# Altium schematic symbol library SchLib_ADH.SchLib: 241 symbols (part 2 of 9)
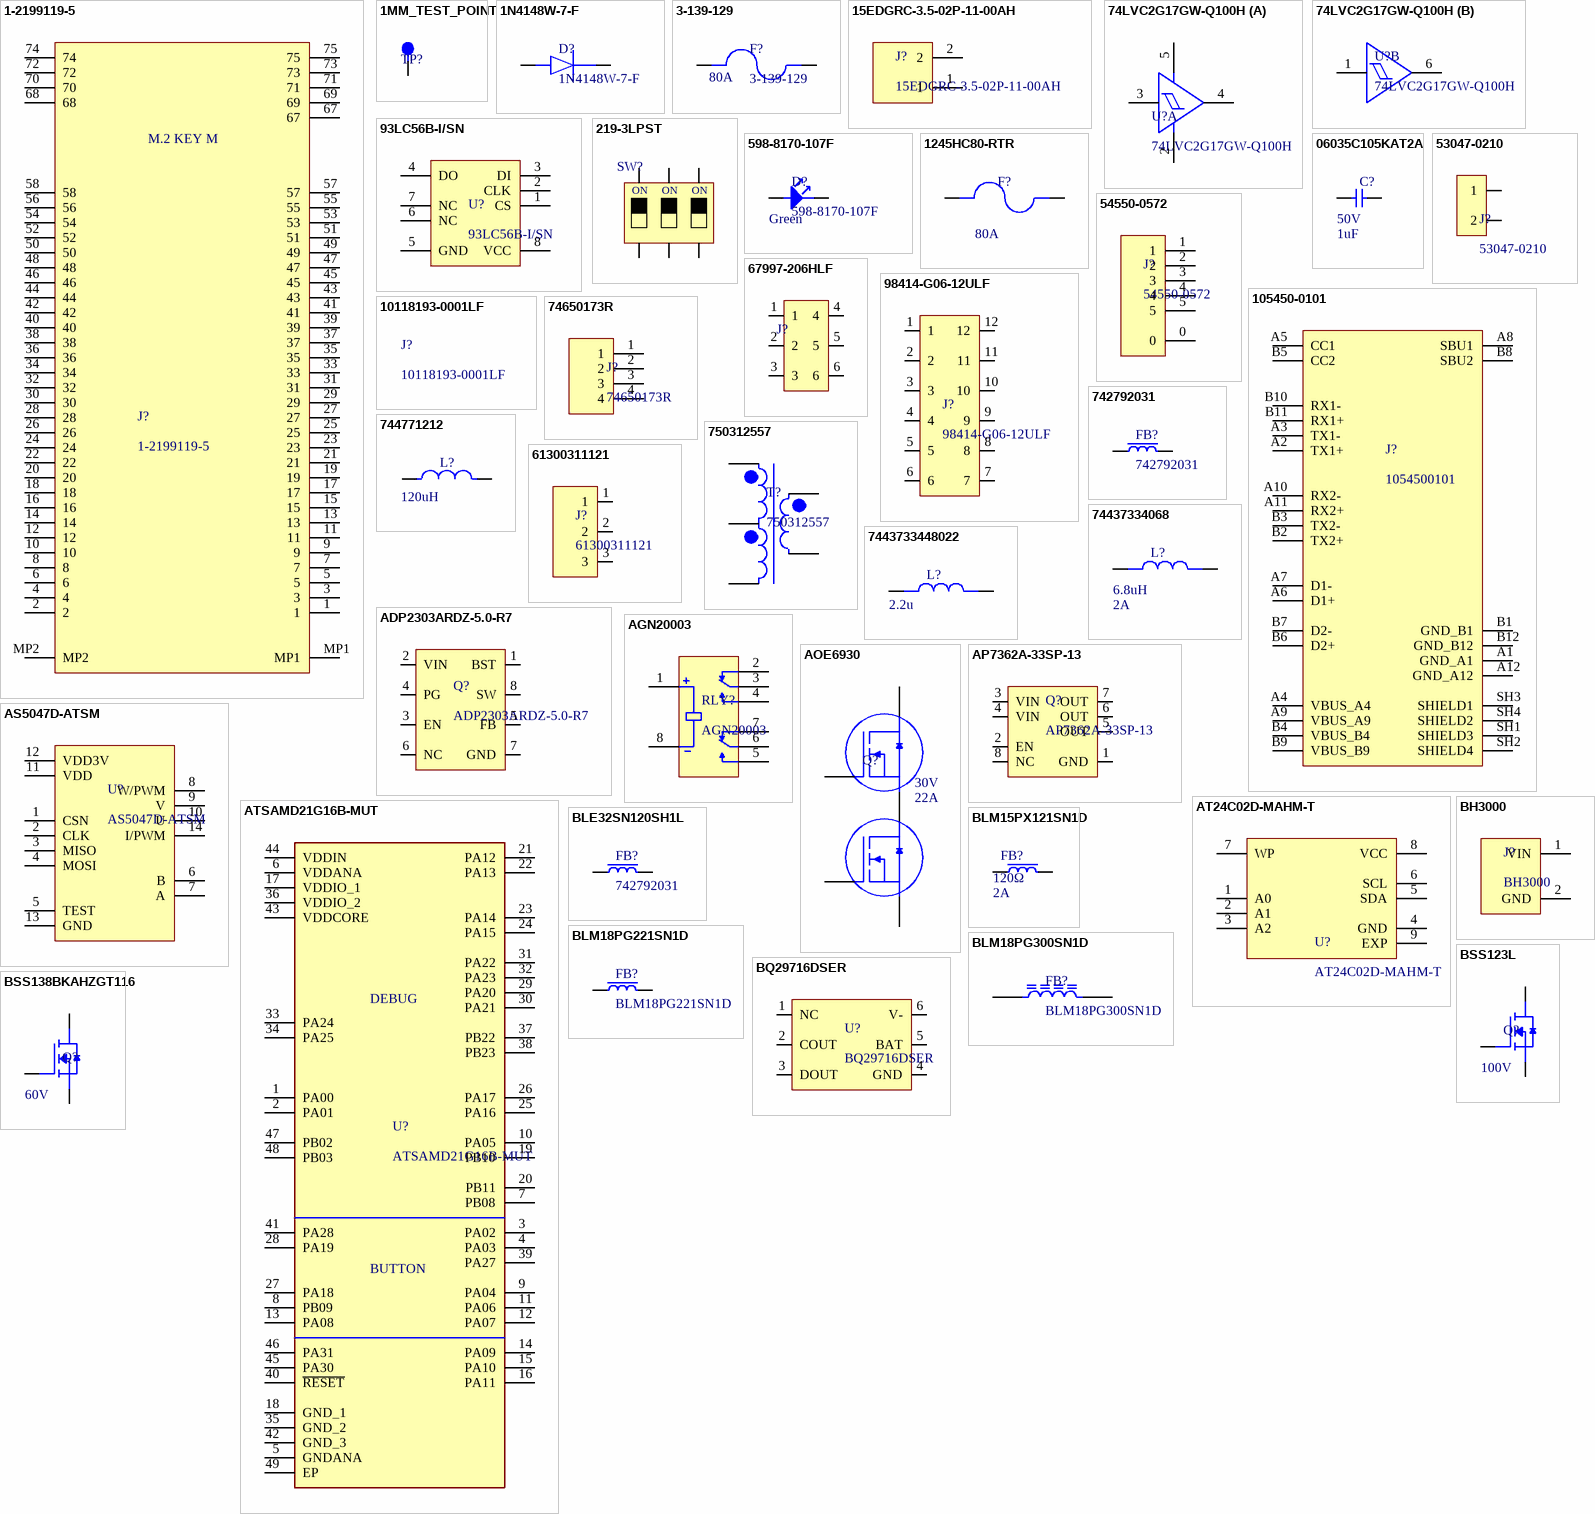
[diagram p8: symbols 1-2199119-5 to BSS138BKAHZGT116]

## AOE6930
designator Q?  Voltage Rating: 30V  Current Rating: 22A  (hidden comment: AOE6930)
AOE6932 improves gate driving performance | MOSFET 2 N-CH 30V 22A/85A 8DFN; Manufacturer: Alpha & Omega Semiconductor; Supplier: Digikey; Supplier Part Number: 785-AOE6930CT-ND; Manufacturer Part Number: AOE6930; RoHS: Yes; Category: Transistors; Stock: 2557; Pricing: 1=2,15, 10=1,782, 100=1,418, 500=1,19988, 1000=1,01808 (USD); ComponentLink1URL: http://aosmd.com/res/data_sheets/AOE6930.pdf?src-supplier=Digikey; ComponentLink1Description: http://aosmd.com/res/data_sheets/AOE6930.pdf?src-supplier=Digikey; ComponentLink2URL: https://datasheet.octopart.com/AOE6930-Alpha-%26-Omega-Semiconductor-datasheet-136498249.pdf?src-supplier=LKR; ComponentLink2Description: https://datasheet.octopart.com/AOE6930-Alpha-%26-Omega-Semiconductor-datasheet-136498249.pdf?src-supplier=LKR
footprint 8-VDFN
pins: 1 G1, 2 S1/D2, 3 D1, 4 D1, 5 S1/D2, 6 S1/D2, 7 S1/D2, 8 G2, 9 S2, 10 D1

## AP7362A-33SP-13
designator Q?
LDO Regulator Pos 3.3V 1.5A 8-Pin SOP EP T/R; Manufacturer: Diodes; Supplier: Digi-Key; Supplier Part Number: AP7362A-33SP-13DICT-ND; Manufacturer Part Number: AP7362A-33SP-13; RoHS: Yes; Category: Voltage Regulators - Linear; Stock: 13829; Pricing: 1=0,63, 10=0,537, 25=0,5012, 100=0,401, 250=0,37236, 500=0,31508, 1000=0,24347 (USD); ComponentLink1URL: http://www.mouser.com/ds/2/115/AP7362-476331.pdf?src-supplier=Mouser; ComponentLink1Description: http://www.mouser.com/ds/2/115/AP7362-476331.pdf?src-supplier=Mouser; ComponentLink2URL: https://www.diodes.com/assets/Datasheets/AP7362.pdf?src-supplier=Digi-Key; ComponentLink2Description: https://www.diodes.com/assets/Datasheets/AP7362.pdf?src-supplier=Digi-Key; ComponentLink3URL: https://datasheet.octopart.com/AP7362A-33SP-13-Diodes-Inc.-datasheet-141402624.pdf?src-supplier=Element14; ComponentLink3Description: https://datasheet.octopart.com/AP7362A-33SP-13-Diodes-Inc.-datasheet-141402624.pdf?src-supplier=Element14; ComponentLink4URL: http://diodes.com/datasheets/AP7362.pdf?src-supplier=Avnet; ComponentLink4Description: http://diodes.com/datasheets/AP7362.pdf?src-supplier=Avnet
footprint SOIC127P600X175_HS-9N (SOIC, 8-Leads, Body 4,90x3,90mm, Pitch 1,27mm, Thermal Pad 2,29x2,29mm, IPC Medium Density)
pins: 1 GND, 2 EN, 3 VIN, 4 VIN, 5 OUT, 6 OUT, 7 OUT, 8 NC

## AS5047D-ATSM
designator U?
AS5047 Series 5.5 V 14-Bit On-Axis Magnetic Rotary Position Sensor - TSSOP-14; Manufacturer: Osram; Supplier: Digi-Key; Supplier Part Number: AS5047D-ATSMCT-ND; Manufacturer Part Number: AS5047D-ATSM; RoHS: No; Stock: 17926; Pricing: 1=7,58, 10=6,066, 25=5,6112, 100=4,8528 (USD); ComponentLink1URL: https://datasheet.octopart.com/AS5047D-ATSM-Osram-datasheet-101745473.pdf?src-supplier=Future+Electronics; ComponentLink1Description: https://datasheet.octopart.com/AS5047D-ATSM-Osram-datasheet-101745473.pdf?src-supplier=Future+Electronics
footprint SOP65P640X120-14N
pins: 1 CSN, 2 CLK, 3 MISO, 4 MOSI, 5 TEST, 6 B, 7 A, 8 W/PWM, 9 V, 10 U, 11 VDD, 12 VDD3V, 13 GND, 14 I/PWM

## AT24C02D-MAHM-T
designator U?
EEPROM, 256X8, Serial, CMOS, PDSO8; Manufacturer: Microchip; Package Body Material: Plastic; Clock Frequency: 400kHz; Data Retention Time-Min: 100; Endurance: 1000000Cycles; I2C Control Byte: 1010DDDR; Density: 2048b; Memory Width: 8; Channels: 1; Memory Size: 256; Operating Mode: SYNCHRONOUS; Package Equivalence Code: SOLCC8,.11,20; Power Supplies: 1.8/3.3V; Serial Bus Type: I2C; Standby Current-Max: 400nA; Max Supply Current: 1uA; Max Supply Voltage: 3.6V; Min Supply Voltage: 1.7V; Nominal Supply Voltage: 1.8V; Write Cycle Time-Max (tWC): 5ms; Write Protection: HARDWARE; Qualification Status: Not Qualified; Supplier 1: Digikey; Manufacturer Part Number: AT24C02D-MAHM-T; RoHS: Yes; Stock 1: 31907; Pricing 1: 1=0.25, 100=0.2369 (USD); Case/Package: HVSON; Pins: 8; Package Shape: Rectangular; Min Operating Temperature: -40°C; Max Operating Temperature: 85°C; Memory Format: EEPROM; JESD-30 Code: R-PDSO-N8; Organization: 256X8; Package Style: SMALL OUTLINE, HEAT SINK/SLUG, VERY THIN PROFILEMeter; Parallel/Serial: SERIAL; Surface Mount: Yes; Technology: CMOS; Terminal Form: No Lead; Terminal Position: DUAL; Length: 3mm; Width: 2mm; Height - Seated (Max): 0.6mm; Terminal Pitch: 0.5mm; Temperature Grade: INDUSTRIAL; Reach SVHC Compliant: Yes; RoHS Compliant: Yes; ComponentLink1URL: https://datasheet.ciiva.com:443/pdfs/VipMasterIC/IC/ATML/ATML-S-A0001226715/ATML-S-A0001226715-1.pdf?src-supplier=IHS+Markit; ComponentLink1Description: https://datasheet.ciiva.com:443/pdfs/VipMasterIC/IC/ATML/ATML-S-A0001226715/ATML-S-A0001226715-1.pdf?src-supplier=IHS+Markit; ComponentLink2URL: https://datasheet.ciiva.com/48496/atmel-8871-seeprom-at24c01d-02d-datasheet-48496454.pdf?src-supplier=Avnet; ComponentLink2Description: https://datasheet.ciiva.com/48496/atmel-8871-seeprom-at24c01d-02d-datasheet-48496454.pdf?src-supplier=Avnet; Supplier Part Number 1: AT24C02D-MAHM-TCT-ND
footprint SON50P200X300X60-9N
pins: 1 A0, 2 A1, 3 A2, 4 GND, 5 SDA, 6 SCL, 7 WP, 8 VCC, 9 EXP

## ATSAMD21G16B-MUT
designator U?
MCU 32-Bit SAM D21G ARM Cortex M0+ RISC 64KB Flash 3.3V 48-Pin QFN EP T/R; Manufacturer: Microchip; Interface: I2C,SPI,USB,UART,USART; Number of I/Os: 38; Oscillator Type: Internal; Peripherals: Brown-out Detect/Reset,POR,PWM,WDT,DMA; Supplier: Digikey; Supplier Part Number: ATSAMD21G16B-MUTCT-ND; Manufacturer Part Number: ATSAMD21G16B-MUT; RoHS: No; Category: Uncategorized; Stock: 32000; Pricing: 1=2,79, 25=2,54, 100=2,31 (USD); Mounting Technology: Surface Mount; Case/Package: QFN; Pins: 48; Min Operating Temperature: -40°C; Max Operating Temperature: 85°C; Packaging: Cut Tape; Memory Format: FLASH; Memory Size: 64KB; Core Architecture: ARM; Series: SAM D21G; RoHS Compliant: No; ComponentLink1URL: http://www.atmel.com/images/atmel-42181-sam-d21_datasheet.pdf?src-supplier=Avnet; ComponentLink1Description: http://www.atmel.com/images/atmel-42181-sam-d21_datasheet.pdf?src-supplier=Avnet; ComponentLink2URL: http://www.microchip.com/mymicrochip/filehandler.aspx?ddocname=en605782&src-supplier=Digikey; ComponentLink2Description: http://www.microchip.com/mymicrochip/filehandler.aspx?ddocname=en605782&src-supplier=Digikey
footprint QFN50P700X700X60-49N-D
pins: 1 PA00, 2 PA01, 3 PA02, 4 PA03, 5 GNDANA, 6 VDDANA, 7 PB08, 8 PB09, 9 PA04, 10 PA05, 11 PA06, 12 PA07, 13 PA08, 14 PA09, 15 PA10, 16 PA11, 17 VDDIO_1, 18 GND_1, 19 PB10, 20 PB11, 21 PA12, 22 PA13, 23 PA14, 24 PA15, 25 PA16, 26 PA17, 27 PA18, 28 PA19, 29 PA20, 30 PA21, 31 PA22, 32 PA23, 33 PA24, 34 PA25, 35 GND_2, 36 VDDIO_2, 37 PB22, 38 PB23, 39 PA27, 40 ~{RESET}, 41 PA28, 42 GND_3, 43 VDDCORE, 44 VDDIN, 45 PA30, 46 PA31, 47 PB02, 48 PB03, 49 EP
text: DEBUG; BUTTON

## BH3000
designator J?
Battery Holder Coin 30MM Pc Pin; Manufacturer: Memory Protection Devices; Supplier: Digi-Key; Supplier Part Number: BH3000-ND; Manufacturer Part Number: BH3000; RoHS: No; Category: Batteries and Accessories; Stock: 1816; Pricing: 1=1,97, 10=1,655, 50=1,4544, 100=1,3704, 250=1,26048, 500=1,18292, 1000=1,10534, 2500=1,00192, 5000=0,91789 (USD); ComponentLink1URL: https://datasheet.ciiva.com/4/bh3000-datasheet-4407.pdf?src-supplier=Digi-Key; ComponentLink1Description: https://datasheet.ciiva.com/4/bh3000-datasheet-4407.pdf?src-supplier=Digi-Key
footprint BAT_BH3000
pins: 1 VIN, 2 GND

## BLE32SN120SH1L
designator FB?, comment 742792031
12 Ohms @ 100 MHz 1 Power Line Ferrite Bead 1210 (3225 Metric) 20A 0.6mOhm; Manufacturer Part Number: 742792031
footprint BLE32SN120SH1L
pins: 1, 2

## BLM15PX121SN1D
designator FB?  Impedance: 120Ω  Max Current Rating: 2A  (hidden comment: BLM15PX121SN1D)
Ferrite Beads Multi-Layer 120Ohm 25% 100MHz 2A 0.055Ohm DCR 0402 T/R; Manufacturer: Murata; Current Rating: 1.1A; DC Resistance (DCR): 55mΩ; Material: Steel; Number of Circuits: 1; Supplier: Arrow Electronics; Supplier Part Number: BLM15PX121SN1D; Manufacturer Part Number: BLM15PX121SN1D; RoHS: Compliant; Category: Ferrite Beads and Chips; Stock: 81241; Pricing: 4237=0,0236, 6000=0,023, 15000=0,023, 30000=0,022, 75000=0,022 (USD); Case/Package: 0402; Case Code (Imperial): 0402; Case Code (Metric): 1005; Contact Plating: Tin; Core Material: Ferrite; Height: 500µm; Lead Free: Lead Free; Length: 1mm; Lifecycle Status: Production; Max DC Current: 2A; Max Operating Temperature: 125°C; Min Operating Temperature: -55°C; Number of Lines: 1; Pins: 2; Number of Terminals: 2; Packaging: Tape and Reel; REACH SVHC: Yes; RMS Current (Irms): 2A; Schedule B: 8504500000, 8504500000|8504500000, 8504500000|8504500000|8504500000, 8504500000|8504500000|8504500000|8504500000; ESR: 55mΩ; Termination: SMD/SMT; Test Frequency: 100MHz; Tolerance: 25%; Weight: 652.039032µg; Width: 500µm; ComponentLink1URL: https://datasheet.octopart.com:443/BLM15PX121SN1D-Murata-datasheet-180806543.pdf?src-supplier=IHS; ComponentLink1Description: https://datasheet.octopart.com:443/BLM15PX121SN1D-Murata-datasheet-180806543.pdf?src-supplier=IHS; ComponentLink2URL: https://datasheet.octopart.com:443/BLM15PX121SN1D-Murata-datasheet-12522583.pdf?src-supplier=Upverter; ComponentLink2Description: https://datasheet.octopart.com:443/BLM15PX121SN1D-Murata-datasheet-12522583.pdf?src-supplier=Upverter; ComponentLink3URL: https://datasheet.octopart.com:443/BLM15PX121SN1D-Murata-datasheet-10083551.pdf?src-supplier=Upverter; ComponentLink3Description: https://datasheet.octopart.com:443/BLM15PX121SN1D-Murata-datasheet-10083551.pdf?src-supplier=Upverter; ComponentLink4URL: https://datasheet.octopart.com:443/BLM15PX121SN1D-Murata-datasheet-8508678.pdf?src-supplier=Upverter; ComponentLink4Description: https://datasheet.octopart.com:443/BLM15PX121SN1D-Murata-datasheet-8508678.pdf?src-supplier=Upverter; ComponentLink5URL: https://datasheet.octopart.com:443/BLM15PX121SN1D-Murata-datasheet-39128427.pdf?src-supplier=Newark; ComponentLink5Description: https://datasheet.octopart.com:443/BLM15PX121SN1D-Murata-datasheet-39128427.pdf?src-supplier=Newark; ComponentLink6URL: https://datasheet.octopart.com:443/BLM15PX121SN1D-Murata-datasheet-166171473.pdf?src-supplier=TME; ComponentLink6Description: https://datasheet.octopart.com:443/BLM15PX121SN1D-Murata-datasheet-166171473.pdf?src-supplier=TME; ComponentLink7URL: https://datasheet.octopart.com:443/BLM15PX121SN1D-Murata-datasheet-141257890.pdf?src-supplier=Ciiva; ComponentLink7Description: https://datasheet.octopart.com:443/BLM15PX121SN1D-Murata-datasheet-141257890.pdf?src-supplier=Ciiva; ComponentLink8URL: https://datasheet.octopart.com:443/BLM15PX121SN1D-Murata-datasheet-138706708.pdf?src-supplier=Ciiva; ComponentLink8Description: https://datasheet.octopart.com:443/BLM15PX121SN1D-Murata-datasheet-138706708.pdf?src-supplier=Ciiva; ComponentLink9URL: https://datasheet.octopart.com:443/BLM15PX121SN1D-Murata-datasheet-78375072.pdf?src-supplier=Future+Electronics; ComponentLink9Description: https://datasheet.octopart.com:443/BLM15PX121SN1D-Murata-datasheet-78375072.pdf?src-supplier=Future+Electronics; ComponentLink10URL: https://datasheet.octopart.com:443/BLM15PX121SN1D-Murata-datasheet-13563506.pdf?src-supplier=Future+Electronics; ComponentLink10Description: https://datasheet.octopart.com:443/BLM15PX121SN1D-Murata-datasheet-13563506.pdf?src-supplier=Future+Electronics; ComponentLink11URL: https://datasheet.octopart.com:443/BLM15PX121SN1D-Murata-datasheet-12545319.pdf?src-supplier=Future+Electronics; ComponentLink11Description: https://datasheet.octopart.com:443/BLM15PX121SN1D-Murata-datasheet-12545319.pdf?src-supplier=Future+Electronics; ComponentLink12URL: https://datasheet.octopart.com/BLM15PX121SN1D-Murata-datasheet-37129980.pdf; ComponentLink12Description: https://datasheet.octopart.com/BLM15PX121SN1D-Murata-datasheet-37129980.pdf; ComponentLink13URL: http://sigma.octopart.com:80/reach_statement/Murata-company-16.pdf?src-supplier=Compliance+Statements; ComponentLink13Description: http://sigma.octopart.com:80/reach_statement/Murata-company-16.pdf?src-supplier=Compliance+Statements
footprint FERRITE_0402
pins: 1, 2

## BLM18PG221SN1D
designator FB?
Ferrite Beads Multi-Layer 220Ohm 25% 100MHz 1.4A 100mOhm DCR 0603 Paper T/R; Manufacturer: Murata; Manufacturer Series: BLM18P; Material: Steel,Ferrite; Value: 100mR; Impedance: 220R; Number of Lines: 1; Shielding: Unshielded; Supplier: Digikey; Supplier Part Number: 490-5221-1-ND; Manufacturer Part Number: BLM18PG221SN1D; RoHS: Yes; Category: Ferrite Beads and Chips; Stock: 127157; Pricing: 1=0,1, 10=0,061, 25=0,0528, 50=0,0472, 100=0,0423, 250=0,03644, 500=0,03244, 1000=0,02878 (USD); Case/Package: 0603; Pins: 2; Core Material: Ferrite; Case Code (Metric): 1608; Case Code (Imperial): 0603; Weight: 7.1E-05oz; Min Operating Temperature: -55°C; Max Operating Temperature: 125°C; Package Quantity: 1; Tolerance: 25%; Packaging: Tape and Reel; Current Rating: 1.4A; ESR (Equivalent Series Resistance): 220R; Max Current Rating: 1.4A; DC Resistance (DCR): 100mR; Termination: SMD/SMT; Max DC Current: 1.4A; Test Frequency: 100MHz; DC Current: 1.4A; Number of Circuits: 1; Series: BLM18P; Channels: 1; DC Resistance-Max: 100mR; RMS Current (Irms): 1.4A; ESR: 100mR; Length: 1.6mm; Width: 0.8mm; Height: 0.8mm; Depth: 0.8mm; Radiation Hardening: No; Reach SVHC Compliant: No; Lead Free: Lead Free; RoHS Compliant: Yes; ComponentLink1URL: https://datasheet.ciiva.com/19458/1845030-19458417.pdf?src-supplier=Jameco; ComponentLink1Description: https://datasheet.ciiva.com/19458/1845030-19458417.pdf?src-supplier=Jameco; ComponentLink2URL: https://datasheet.ciiva.com/11800/0900766b81275ca5-11800851.pdf?src-supplier=Rs; ComponentLink2Description: https://datasheet.ciiva.com/11800/0900766b81275ca5-11800851.pdf?src-supplier=Rs; ComponentLink3URL: https://datasheet.ciiva.com/29347/442391-da-01-en-chip-drossel-0603-220r-1400ma-1-6x0-8mm-29347986.pdf?src-supplier=Conrad; ComponentLink3Description: https://datasheet.ciiva.com/29347/442391-da-01-en-chip-drossel-0603-220r-1400ma-1-6x0-8mm-29347986.pdf?src-supplier=Conrad; ComponentLink4URL: https://datasheet.ciiva.com/8021/5148-8021482.pdf?src-supplier=Element14; ComponentLink4Description: https://datasheet.ciiva.com/8021/5148-8021482.pdf?src-supplier=Element14; ComponentLink5URL: https://datasheet.ciiva.com/8021/5148-8021479.pdf?src-supplier=Element14; ComponentLink5Description: https://datasheet.ciiva.com/8021/5148-8021479.pdf?src-supplier=Element14; ComponentLink6URL: https://datasheet.ciiva.com/14122/blm-series-eng-tds-14122909.pdf?src-supplier=Distrelec; ComponentLink6Description: https://datasheet.ciiva.com/14122/blm-series-eng-tds-14122909.pdf?src-supplier=Distrelec; ComponentLink7URL: https://datasheet.ciiva.com/1012/l0110s0100blm18p-1012162.pdf?src-supplier=Digikey; ComponentLink7Description: https://datasheet.ciiva.com/1012/l0110s0100blm18p-1012162.pdf?src-supplier=Digikey; ComponentLink8URL: https://datasheet.ciiva.com/1012/l0110s0100blm18p-1012161.pdf?src-supplier=Digikey; ComponentLink8Description: https://datasheet.ciiva.com/1012/l0110s0100blm18p-1012161.pdf?src-supplier=Digikey; ComponentLink9URL: https://datasheet.ciiva.com/1012/l0110s0100blm18p-1012163.pdf?src-supplier=Digikey; ComponentLink9Description: https://datasheet.ciiva.com/1012/l0110s0100blm18p-1012163.pdf?src-supplier=Digikey; ComponentLink10URL: https://datasheet.ciiva.com/3081/l0110s0100blm18p-3081633.pdf?src-supplier=Avnet; ComponentLink10Description: https://datasheet.ciiva.com/3081/l0110s0100blm18p-3081633.pdf?src-supplier=Avnet; ComponentLink11URL: https://datasheet.ciiva.com/16205/l0110s0100blm18p-16205422.pdf?src-supplier=Future+Electronics; ComponentLink11Description: https://datasheet.ciiva.com/16205/l0110s0100blm18p-16205422.pdf?src-supplier=Future+Electronics
footprint FERRITE_0603
pins: 1, 2

## BLM18PG300SN1D
designator FB?
FERRITE BEAD 30 OHM 0603 1LN / Ferrite Beads Multi-Layer 30Ohm 100MHz 1A 0.05Ohm DCR 0603 T/R; Manufacturer: Murata; ESR: 50mR; Supplier: Digi-Key; Supplier Part Number: 490-1035-1-ND; Manufacturer Part Number: BLM18PG300SN1D; RoHS: Yes; Category: Ferrite Beads and Chips; Stock: 378641; Pricing: 1=0,1, 10=0,078, 25=0,0712, 50=0,064, 100=0,0469, 250=0,03412, 500=0,03128, 1000=0,02701 (USD); RMS Current (Irms): 1A; ComponentLink1URL: https://datasheet.ciiva.com/11800/0900766b81275ca5-11800868.pdf?src-supplier=Rs; ComponentLink1Description: https://datasheet.ciiva.com/11800/0900766b81275ca5-11800868.pdf?src-supplier=Rs; ComponentLink2URL: https://datasheet.ciiva.com/3081/l0110s0100blm18p-3081635.pdf?src-supplier=Avnet; ComponentLink2Description: https://datasheet.ciiva.com/3081/l0110s0100blm18p-3081635.pdf?src-supplier=Avnet; ComponentLink3URL: https://datasheet.ciiva.com/3081/l0110s0100blm18p-3081636.pdf?src-supplier=Avnet; ComponentLink3Description: https://datasheet.ciiva.com/3081/l0110s0100blm18p-3081636.pdf?src-supplier=Avnet; ComponentLink4URL: https://datasheet.ciiva.com/1012/l0110s0100blm18p-1012119.pdf?src-supplier=Digi-Key; ComponentLink4Description: https://datasheet.ciiva.com/1012/l0110s0100blm18p-1012119.pdf?src-supplier=Digi-Key; ComponentLink5URL: https://datasheet.ciiva.com/1012/l0110s0100blm18p-1012120.pdf?src-supplier=Digi-Key; ComponentLink5Description: https://datasheet.ciiva.com/1012/l0110s0100blm18p-1012120.pdf?src-supplier=Digi-Key; ComponentLink6URL: https://datasheet.ciiva.com/1012/l0110s0100blm18p-1012121.pdf?src-supplier=Digi-Key; ComponentLink6Description: https://datasheet.ciiva.com/1012/l0110s0100blm18p-1012121.pdf?src-supplier=Digi-Key; ComponentLink7URL: https://datasheet.ciiva.com/8021/5148-8021484.pdf?src-supplier=Element14; ComponentLink7Description: https://datasheet.ciiva.com/8021/5148-8021484.pdf?src-supplier=Element14; ComponentLink8URL: https://datasheet.ciiva.com/8021/5148-8021486.pdf?src-supplier=Element14; ComponentLink8Description: https://datasheet.ciiva.com/8021/5148-8021486.pdf?src-supplier=Element14
footprint FERRITE_0603
pins: 1, 2

## BQ29716DSER
designator U?
Li-Ion/Li Polymer Advanced Single-Cell Battery Protector IC Family 6-WSON -40 to 85; Manufacturer: Texas Instruments; Supplier: Digi-Key; Supplier Part Number: 296-50977-1-ND; Manufacturer Part Number: BQ29716DSER; RoHS: Yes; Category: Battery Management; Stock: 5990; Pricing: 1=0,6, 10=0,515, 25=0,4808, 100=0,3846, 250=0,35712, 500=0,3022, 1000=0,23351 (USD); ComponentLink1URL: http://www.ti.com/lit/gpn/bq2971?src-supplier=Mouser; ComponentLink1Description: http://www.ti.com/lit/gpn/bq2971?src-supplier=Mouser; ComponentLink2URL: http://www.ti.com/general/docs/suppproductinfo.tsp?distId=10&amp;gotoUrl=http%3A%2F%2Fwww.ti.com%2Flit%2Fgpn%2Fbq2971&src-supplier=Digi-Key; ComponentLink2Description: http://www.ti.com/general/docs/suppproductinfo.tsp?distId=10&amp;gotoUrl=http%3A%2F%2Fwww.ti.com%2Flit%2Fgpn%2Fbq2971&src-supplier=Digi-Key; ComponentLink3URL: http://www.ti.com/lit/ds/symlink/bq2971.pdf?src-supplier=Digi-Key; ComponentLink3Description: http://www.ti.com/lit/ds/symlink/bq2971.pdf?src-supplier=Digi-Key
footprint SON50P150X150X80-6N
pins: 1 NC, 2 COUT, 3 DOUT, 4 GND, 5 BAT, 6 V-

## BSS123L
designator Q?  Drain to Source Breakdown Voltage: 100V  (hidden comment: BSS123L)
Power MOSFET 170 mA, 100 V, N-Channel SOT-23; Manufacturer: ON Semiconductor / Fairchild; Supplier: Digikey; Supplier Part Number: BSS123LCT-ND; Manufacturer Part Number: BSS123L; RoHS: Yes; Category: MOSFETs; Stock: 133490; Pricing: 1=0,3, 10=0,209, 100=0,1018, 500=0,08488, 1000=0,05898 (USD); Height: 1.11mm; ComponentLink1URL: http://www.mouser.com/ds/2/149/BSS123L-469259.pdf?src-supplier=Mouser; ComponentLink1Description: http://www.mouser.com/ds/2/149/BSS123L-469259.pdf?src-supplier=Mouser; ComponentLink2URL: http://components.arrow.com/part/dataview/74324801S1101125N9186?src-supplier=Arrow+Electronics; ComponentLink2Description: http://components.arrow.com/part/dataview/74324801S1101125N9186?src-supplier=Arrow+Electronics; ComponentLink3URL: http://www.farnell.com/datasheets/2298165.pdf?src-supplier=Farnell; ComponentLink3Description: http://www.farnell.com/datasheets/2298165.pdf?src-supplier=Farnell; ComponentLink4URL: http://www.farnell.com/datasheets/2298165.pdf?src-supplier=Element14; ComponentLink4Description: http://www.farnell.com/datasheets/2298165.pdf?src-supplier=Element14; ComponentLink5URL: https://datasheet.octopart.com/BSS123L-Fairchild-Semiconductor-datasheet-62338510.pdf?src-supplier=Newark; ComponentLink5Description: https://datasheet.octopart.com/BSS123L-Fairchild-Semiconductor-datasheet-62338510.pdf?src-supplier=Newark; ComponentLink6URL: http://www.farnell.com/datasheets/2298165.pdf?src-supplier=Newark; ComponentLink6Description: http://www.farnell.com/datasheets/2298165.pdf?src-supplier=Newark; ComponentLink7URL: https://datasheet.octopart.com/BSS123L-ON-Semiconductor-datasheet-101149912.pdf?src-supplier=Future+Electronics; ComponentLink7Description: https://datasheet.octopart.com/BSS123L-ON-Semiconductor-datasheet-101149912.pdf?src-supplier=Future+Electronics; ComponentLink8URL: https://www.fairchildsemi.com/datasheets/BS/BSS123L.pdf?src-supplier=Avnet; ComponentLink8Description: https://www.fairchildsemi.com/datasheets/BS/BSS123L.pdf?src-supplier=Avnet; ComponentLink9URL: https://www.fairchildsemi.com/datasheets/BS/BSS123L.pdf?src-supplier=Digikey; ComponentLink9Description: https://www.fairchildsemi.com/datasheets/BS/BSS123L.pdf?src-supplier=Digikey; ComponentLink10URL: https://datasheet.octopart.com/BSS123L-ON-Semiconductor-datasheet-62277133.pdf?src-supplier=TME; ComponentLink10Description: https://datasheet.octopart.com/BSS123L-ON-Semiconductor-datasheet-62277133.pdf?src-supplier=TME
footprint CDSOT23
pins: 1 G, 2 S, 3 D

## BSS138BKAHZGT116
designator Q?  Voltage Rating: 60V  (hidden comment: BSS138BKAHZGT116)
Trans MOSFET N-CH 60V 0.4A Automotive AEC-Q101 3-Pin SOT-23 T/R; Manufacturer: Rohm; Supplier: Digikey; Supplier Part Number: 846-BSS138BKAHZGT116CT-ND; Manufacturer Part Number: BSS138BKAHZGT116; RoHS: No; Category: LDO; Stock: 5184; Pricing: 1=0,48, 10=0,343, 100=0,1728, 500=0,15314, 1000=0,11918 (USD)
footprint SOT95P230X110-3N
pins: 1 G, 2 S, 3 D

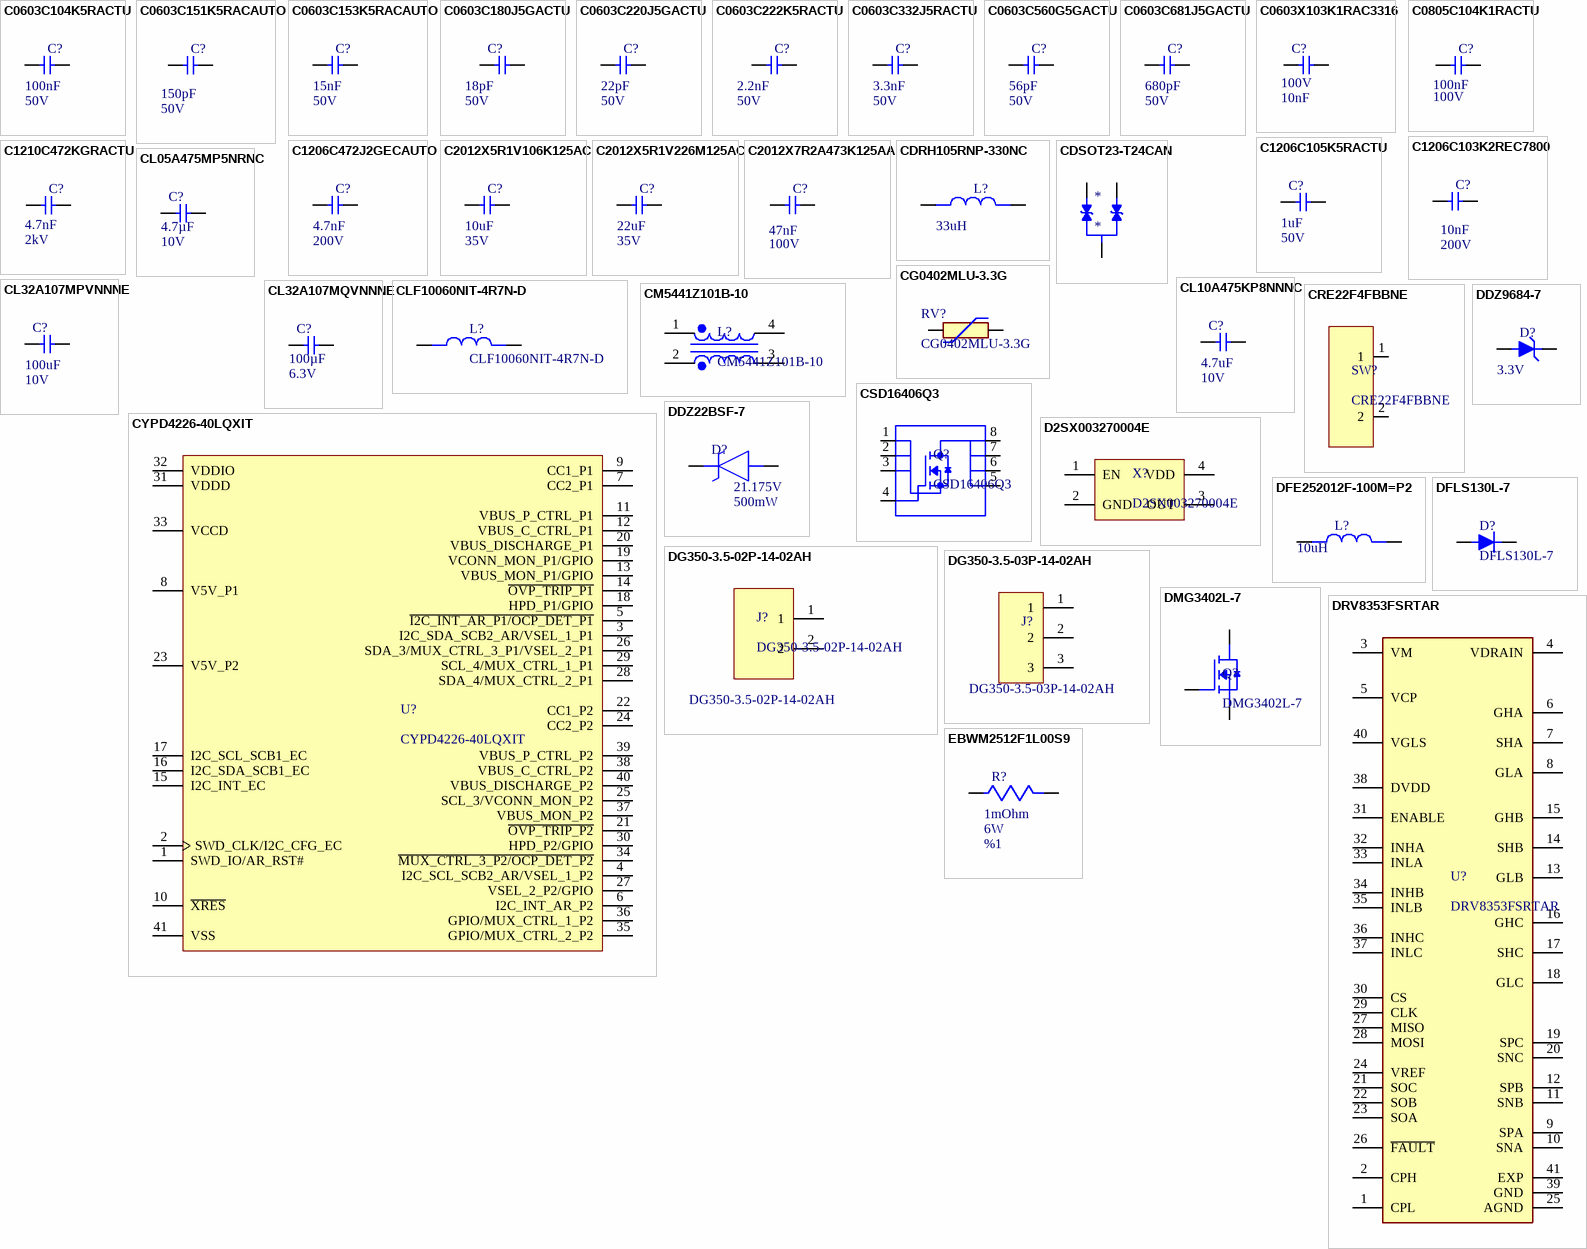
[diagram p1: symbols C0603C104K5RACTU to EBWM2512F1L00S9]

## C0603C104K5RACTU
designator C?  value 100nF  Voltage Rating: 50V  (hidden comment: C0603C104K5RACTU)
Multilayer Ceramic Capacitor, 0.1 uF, 50 V, ± 10%, X7R, 0603 [1608 Metric]; Manufacturer: KEMET; Material: 4241ConductorMaterial; Temperature Coefficient: 30ppm/°C; Supplier: Digi-Key; Supplier Part Number: 399-C0603C104K5RAC7867CT-ND; Manufacturer Part Number: C0603C104K5RACTU; RoHS: Yes; Category: Ceramic Capacitors; Stock: 6050842; Pricing: 1=0,1, 10=0,07, 50=0,0404, 100=0,0312, 500=0,02352, 1000=0,01848 (USD); Mounting Technology: Surface Mount; Case/Package: 0603; Min Operating Temperature: -55°C; Max Operating Temperature: 125°C; Tolerance: 10%; Dielectric: X7R; Packaging: Tape and Reel; Voltage: 50V; Series: SMD Comm X7R; Length: 0.063inch; Width: 0.031inch; Thickness: 0.034inch; RoHS Compliant: Yes; Lead Free: 5697LeadFree
footprint CAPC1608X94N
pins: 1, 2 12

## C0603C151K5RACAUTO
designator C?  value 150pF  Voltage Rating: 50V  (hidden comment: C0603C151K5RACAUTO)
Multilayer Ceramic Capacitors MLCC - SMD/SMT 50V 150pF X7R 0603 10% AEC-Q200; Manufacturer: KEMET; Supplier: Digikey; Supplier Part Number: 399-C0603C151K5RACAUTOCT-ND; Manufacturer Part Number: C0603C151K5RACAUTO; RoHS: Yes; Category: Ceramic Capacitors; Stock: 15564; Pricing: 1=0,27, 10=0,178, 50=0,1252, 100=0,1011, 500=0,07514, 1000=0,06575 (USD); RoHS Compliant: Yes
footprint CAPC1608X94N
pins: 1, 2 12

## C0603C153K5RACAUTO
designator C?  value 15nF  Voltage Rating: 50V  (hidden comment: C0603C153K5RACAUTO)
Cap Ceramic 0.015uF 50V X7R 10% Pad SMD 0603 125C Automotive T/R; Manufacturer: KEMET; Supplier: Digikey; Supplier Part Number: 399-12984-1-ND; Manufacturer Part Number: C0603C153K5RACAUTO; RoHS: Yes; Category: Ceramic Capacitors; Stock: 80224; Pricing: 1=0,11, 10=0,075, 50=0,045, 100=0,0355, 500=0,02618, 1000=0,02168 (USD); Mounting Technology: Surface Mount; Case/Package: 0603; Case Code (Metric): 1608; Case Code (Imperial): 0603; Dielectric Material: Ceramic; Min Operating Temperature: -55°C; Max Operating Temperature: 125°C; Tolerance: 10%; Dielectric: X7R; Packaging: Cut Tape; Voltage Rating (DC): 50V; Series: C; Construction: Flat; Length: 0.063inch; Width: 0.031inch; Height: 0.8mm; Thickness: 0.034inch; Depth: 0.8mm; Ratings: AEC-Q200; Radiation Hardening: No; RoHS Compliant: Yes; ComponentLink1URL: http://www.kemet.com/docfinder?Partnumber=C0603C153K5RACAUTO&src-supplier=Digikey; ComponentLink1Description: http://www.kemet.com/docfinder?Partnumber=C0603C153K5RACAUTO&src-supplier=Digikey; ComponentLink2URL: https://api.kemet.com/component-edge/download/datasheet/C0603C153K5RACAUTO.pdf?src-supplier=Digikey; ComponentLink2Description: https://api.kemet.com/component-edge/download/datasheet/C0603C153K5RACAUTO.pdf?src-supplier=Digikey; ComponentLink3URL: http://capacitoredge.kemet.com/capedge2/DataSheet?pn=C0603C153K5RACAUTO&src-supplier=Avnet; ComponentLink3Description: http://capacitoredge.kemet.com/capedge2/DataSheet?pn=C0603C153K5RACAUTO&src-supplier=Avnet
footprint CAPC1608X94N
pins: 1, 2 12

## C0603C180J5GACTU
designator C?  value 18pF  Voltage Rating: 50V  (hidden comment: C0603C180J5GACTU)
Multilayer Ceramic Capacitor, 18 pF, 50 V, ± 5%, C0G (NP0), 0603 [1608 Metric]; Manufacturer: KEMET; Material: 4241ConductorMaterial; Dissipation Factor: 0.1%; Temperature Coefficient: 30ppm/°C; Supplier: Digi-Key; Supplier Part Number: 399-C0603C180J5GAC7867CT-ND; Manufacturer Part Number: C0603C180J5GACTU; RoHS: Yes; Category: Ceramic Capacitors; Stock: 510643; Pricing: 1=0,1, 10=0,037, 50=0,0212, 100=0,0164, 500=0,01238, 1000=0,00972 (USD); Mounting Technology: Surface Mount,PCB; Case/Package: 0603; Pins: 2; Case Code (Imperial): 0603; Case Code (Metric): 1608; Min Operating Temperature: -55°C; Max Operating Temperature: 125°C; Tolerance: 5%; Dielectric: C0G; Packaging: Tape and Reel; Package Quantity: 4000; Voltage Rating (DC): 50V; Termination: SMD/SMT; Voltage: 50V; Series: SMD Comm C0G; Construction: Flat; Voltage Rating (AC): 50V; Length: 1.6mm; Width: 0.8mm; Height: 0.8mm; Depth: 0.8mm; Lead Pitch: 0.7mm; Thickness: 863.6um; Radiation Hardening: No; Reach SVHC Compliant: No; RoHS Compliant: Yes; Lead Free: 5697LeadFree; ComponentLink1URL: https://datasheet.ciiva.com/7824/1372242-7824010.pdf?src-supplier=Element14; ComponentLink1Description: https://datasheet.ciiva.com/7824/1372242-7824010.pdf?src-supplier=Element14; ComponentLink2URL: https://datasheet.ciiva.com/7824/f9080b-0402-series-c0g-7824009.pdf?src-supplier=Element14; ComponentLink2Description: https://datasheet.ciiva.com/7824/f9080b-0402-series-c0g-7824009.pdf?src-supplier=Element14
footprint CAPC1608X94N
pins: 1, 2 12

## C0603C220J5GACTU
designator C?  value 22pF  Voltage Rating (DC): 50V  (hidden comment: C0603C220J5GACTU)
Multilayer Ceramic Capacitor, 22 pF, 50 V, ± 5%, C0G (NP0), 0603 [1608 Metric]; Manufacturer: KEMET; Material: 4241ConductorMaterial; Supplier: Digi-Key; Supplier Part Number: 399-C0603C220J5GAC7867CT-ND; Manufacturer Part Number: C0603C220J5GACTU; RoHS: Yes; Category: Ceramic Capacitors; Stock: 138104; Pricing: 1=0,13, 10=0,087, 50=0,052, 100=0,0408, 500=0,03016, 1000=0,02497 (USD); Mounting Technology: Surface Mount,PCB; Case/Package: 0603; Case Code (Metric): 1608; Case Code (Imperial): 0603; Weight: 7.1E-05oz; Min Operating Temperature: -55°C; Max Operating Temperature: 125°C; Tolerance: 5%; Dielectric: C0G; Packaging: Tape and Reel; Termination: SMD/SMT; Voltage: 50V; Series: SMD Comm C0G; Voltage Rating: 50V; Construction: Flat; Length: 1.6mm; Width: 0.8mm; Height: 0.8mm; Depth: 0.8mm; Radiation Hardening: No; RoHS Compliant: Yes; Lead Free: 5697LeadFree; ComponentLink1URL: https://datasheet.ciiva.com/7824/f9080b-0402-series-c0g-7824012.pdf?src-supplier=Element14; ComponentLink1Description: https://datasheet.ciiva.com/7824/f9080b-0402-series-c0g-7824012.pdf?src-supplier=Element14; ComponentLink2URL: https://datasheet.ciiva.com/14586/70095383-14586058.pdf?src-supplier=Allied+Electronics; ComponentLink2Description: https://datasheet.ciiva.com/14586/70095383-14586058.pdf?src-supplier=Allied+Electronics; ComponentLink3URL: https://datasheet.ciiva.com/14599/70095383-14599853.pdf?src-supplier=Allied+Electronics; ComponentLink3Description: https://datasheet.ciiva.com/14599/70095383-14599853.pdf?src-supplier=Allied+Electronics; ComponentLink4URL: https://datasheet.ciiva.com/18192/getdatasheetpartid-385505-18192854.pdf?src-supplier=Verical; ComponentLink4Description: https://datasheet.ciiva.com/18192/getdatasheetpartid-385505-18192854.pdf?src-supplier=Verical
footprint CAPC1608X94N
pins: 1, 2 12

## C0603C222K5RACTU
designator C?  value 2.2nF  Rated DC Voltage (URdc): 50V  (hidden comment: C0603C222K5RACTU)
Ceramic Capacitor, Multilayer, Ceramic, 50V, 10% +Tol, 10% -Tol, X7R, 15% TC, 0.0022uF, Surface Mount, 0603; Manufacturer: KEMET; Multilayer: Yes; Supplier 1: Digikey; Manufacturer Part Number: C0603C222K5RACTU; RoHS: Yes; Category: Ceramic Capacitors; Stock 1: 975338; Pricing 1: 1=0.1, 10=0.032, 50=0.0182, 100=0.0141, 500=0.0106, 1000=0.00833 (USD); Mounting Technology: Surface Mount; Pins: 2; Dielectric Material: Ceramic; Package Shape: Rectangular; Case/Package: 0603; Terminal Finish: Nickel; Min Operating Temperature: -55°C; Max Operating Temperature: 125°C; JESD-609 Code: e3; Capacitor Type: Ceramic; Tolerance  (fill in as +-): 10%; Package Style: SMTMeter; Packaging: Tape and Reel; Tolerance (fill in as +-): 10%; Temperature Characteristics Code: X7R; Termination: Wraparound; Length: 1.6mm; Width: 0.8mm; Height: 0.8mm; Reach SVHC Compliant: Yes; RoHS Compliant: Yes; ComponentLink1URL: https://datasheet.ciiva.com:443/pdfs/VipMasterIC/IC/KEME/KEME-S-A0008991654/KEME-S-A0008991654-1.pdf?src-supplier=IHS+Markit; ComponentLink1Description: https://datasheet.ciiva.com:443/pdfs/VipMasterIC/IC/KEME/KEME-S-A0008991654/KEME-S-A0008991654-1.pdf?src-supplier=IHS+Markit; ComponentLink2URL: https://datasheet.ciiva.com/7823/40889-7823695.pdf?src-supplier=Element14; ComponentLink2Description: https://datasheet.ciiva.com/7823/40889-7823695.pdf?src-supplier=Element14; ComponentLink3URL: https://datasheet.ciiva.com/7093/1828800-7093421.pdf?src-supplier=Newark; ComponentLink3Description: https://datasheet.ciiva.com/7093/1828800-7093421.pdf?src-supplier=Newark; ComponentLink4URL: https://datasheet.ciiva.com/5969/kem-c1002-x7r-smd-5969798.pdf?src-supplier=Farnell; ComponentLink4Description: https://datasheet.ciiva.com/5969/kem-c1002-x7r-smd-5969798.pdf?src-supplier=Farnell; ComponentLink5URL: https://datasheet.ciiva.com/7823/40889-7823694.pdf?src-supplier=Element14; ComponentLink5Description: https://datasheet.ciiva.com/7823/40889-7823694.pdf?src-supplier=Element14; ComponentLink6URL: https://datasheet.ciiva.com/28692/1851736-28692927.pdf?src-supplier=Element14; ComponentLink6Description: https://datasheet.ciiva.com/28692/1851736-28692927.pdf?src-supplier=Element14; Supplier Part Number 1: 399-C0603C222K5RAC7867CT-ND
footprint CAPC1608X94N
pins: 1, 2 12

## C0603C332J5RACTU
designator C?  value 3.3nF  Rated DC Voltage (URdc): 50V  (hidden comment: C0603C332J5RACTU)
Ceramic Capacitor, Multilayer, Ceramic, 50V, 5% +Tol, 5% -Tol, X7R, 15% TC, 0.0033uF, Surface Mount, 0603; Manufacturer: KEMET; Multilayer: Yes; Supplier 1: Digikey; Manufacturer Part Number: C0603C332J5RACTU; RoHS: Yes; Category: Ceramic Capacitors; Stock 1: 123037; Pricing 1: 1=0.1, 10=0.04, 50=0.023, 100=0.0178, 500=0.01344, 1000=0.01055 (USD); Mounting Technology: Surface Mount; Pins: 2; Dielectric Material: Ceramic; Package Shape: Rectangular; Case/Package: 0603; Terminal Finish: Nickel; Min Operating Temperature: -55°C; Max Operating Temperature: 125°C; JESD-609 Code: e3; Capacitor Type: Ceramic; Tolerance  (fill in as +-): 5%; Package Style: SMTMeter; Packaging: Tape and Reel; Tolerance (fill in as +-): 5%; Temperature Characteristics Code: X7R; Termination: Wraparound; Length: 1.6mm; Width: 0.8mm; Height: 0.8mm; Reach SVHC Compliant: Yes; RoHS Compliant: Yes; ComponentLink1URL: https://datasheet.ciiva.com:443/pdfs/VipMasterIC/IC/KEME/KEME-S-A0008991654/KEME-S-A0008991654-1.pdf?src-supplier=IHS+Markit; ComponentLink1Description: https://datasheet.ciiva.com:443/pdfs/VipMasterIC/IC/KEME/KEME-S-A0008991654/KEME-S-A0008991654-1.pdf?src-supplier=IHS+Markit; ComponentLink2URL: http://www.jameco.com/Jameco/Products/ProdDS/1637222.pdf?src-supplier=Jameco; ComponentLink2Description: http://www.jameco.com/Jameco/Products/ProdDS/1637222.pdf?src-supplier=Jameco; ComponentLink3URL: http://www.farnell.com/datasheets/2745899.pdf?src-supplier=Farnell; ComponentLink3Description: http://www.farnell.com/datasheets/2745899.pdf?src-supplier=Farnell; ComponentLink4URL: https://www.verical.com/server-webapp/html/getDatasheet?partID=385534&src-supplier=Verical; ComponentLink4Description: https://www.verical.com/server-webapp/html/getDatasheet?partID=385534&src-supplier=Verical; ComponentLink5URL: http://www.mouser.com/ds/2/212/KEM_C1002_X7R_SMD-1102033.pdf?src-supplier=Mouser; ComponentLink5Description: http://www.mouser.com/ds/2/212/KEM_C1002_X7R_SMD-1102033.pdf?src-supplier=Mouser; ComponentLink6URL: http://components.arrow.com/part/dataview/2627826S8993746N7429?src-supplier=Arrow+Electronics; ComponentLink6Description: http://components.arrow.com/part/dataview/2627826S8993746N7429?src-supplier=Arrow+Electronics; ComponentLink7URL: http://www.farnell.com/datasheets/2745899.pdf?src-supplier=Newark; ComponentLink7Description: http://www.farnell.com/datasheets/2745899.pdf?src-supplier=Newark; ComponentLink8URL: http://datasheet.octopart.com/C0603C332J5RACTU-KEMET-datasheet-157246124.pdf?src-supplier=Avnet; ComponentLink8Description: http://datasheet.octopart.com/C0603C332J5RACTU-KEMET-datasheet-157246124.pdf?src-supplier=Avnet; ComponentLink9URL: https://datasheet.octopart.com/C0603C332J5RACTU-KEMET-datasheet-68331906.pdf?src-supplier=Newark; ComponentLink9Description: https://datasheet.octopart.com/C0603C332J5RACTU-KEMET-datasheet-68331906.pdf?src-supplier=Newark; ComponentLink10URL: http://datasheet.octopart.com/C0603C332J5RACTU-KEMET-datasheet-157246124.pdf?src-supplier=Digikey; ComponentLink10Description: http://datasheet.octopart.com/C0603C332J5RACTU-KEMET-datasheet-157246124.pdf?src-supplier=Digikey; ComponentLink11URL: https://api.kemet.com/component-edge/download/datasheet/C0603C332J5RACTU.pdf?src-supplier=Digikey; ComponentLink11Description: https://api.kemet.com/component-edge/download/datasheet/C0603C332J5RACTU.pdf?src-supplier=Digikey; ComponentLink12URL: http://datasheet.octopart.com/C0603C332J5RACTU-KEMET-datasheet-157246124.pdf?src-supplier=Distrelec; ComponentLink12Description: http://datasheet.octopart.com/C0603C332J5RACTU-KEMET-datasheet-157246124.pdf?src-supplier=Distrelec; ComponentLink13URL: http://datasheet.octopart.com/C0603C332J5RACTU-KEMET-datasheet-157246124.pdf?src-supplier=Onlinecomponents.com; ComponentLink13Description: http://datasheet.octopart.com/C0603C332J5RACTU-KEMET-datasheet-157246124.pdf?src-supplier=Onlinecomponents.com; ComponentLink14URL: http://www.farnell.com/datasheets/2745899.pdf?src-supplier=Element14; ComponentLink14Description: http://www.farnell.com/datasheets/2745899.pdf?src-supplier=Element14; ComponentLink15URL: http://capacitoredge.kemet.com/capedge2/DataSheet?pn=C0603C332J5RACTU&src-supplier=Avnet; ComponentLink15Description: http://capacitoredge.kemet.com/capedge2/DataSheet?pn=C0603C332J5RACTU&src-supplier=Avnet; ComponentLink16URL: https://datasheet.octopart.com/C0603C332J5RACTU-KEMET-datasheet-149522087.pdf?src-supplier=Farnell; ComponentLink16Description: https://datasheet.octopart.com/C0603C332J5RACTU-KEMET-datasheet-149522087.pdf?src-supplier=Farnell; ComponentLink17URL: http://datasheet.octopart.com/C0603C332J5RACTU-KEMET-datasheet-157246124.pdf?src-supplier=Component+Sense; ComponentLink17Description: http://datasheet.octopart.com/C0603C332J5RACTU-KEMET-datasheet-157246124.pdf?src-supplier=Component+Sense; ComponentLink18URL: https://datasheet.octopart.com/C0603C332J5RACTU-KEMET-datasheet-164512540.pdf?src-supplier=TME; ComponentLink18Description: https://datasheet.octopart.com/C0603C332J5RACTU-KEMET-datasheet-164512540.pdf?src-supplier=TME; ComponentLink19URL: https://datasheet.octopart.com/C0603C332J5RACTU-KEMET-datasheet-157246124.pdf?src-supplier=Electro+Sonic; ComponentLink19Description: https://datasheet.octopart.com/C0603C332J5RACTU-KEMET-datasheet-157246124.pdf?src-supplier=Electro+Sonic; Supplier Part Number 1: 399-C0603C332J5RAC7867CT-ND
footprint CAPC1608X94N
pins: 1, 2 12

## C0603C560G5GACTU
designator C?  value 56pF  Rated DC Voltage (URdc): 50V  (hidden comment: C0603C560G5GACTU)
Ceramic Capacitor, Multilayer, Ceramic, 50V, 2% +Tol, 2% -Tol, C0G, 30ppm/Cel TC, 0.000056uF, Surface Mount, 0603; Manufacturer: KEMET; Multilayer: Yes; Supplier 1: Digikey; Manufacturer Part Number: C0603C560G5GACTU; RoHS: Yes; Category: Ceramic Capacitors; Stock 1: 184802; Pricing 1: 1=0.16, 10=0.111, 50=0.0662, 100=0.0521, 500=0.0385, 1000=0.03188 (USD); Mounting Technology: Surface Mount; Pins: 2; Dielectric Material: Ceramic; Package Shape: Rectangular; Case/Package: 0603; Terminal Finish: Nickel; Min Operating Temperature: -55°C; Max Operating Temperature: 125°C; JESD-609 Code: e3; Capacitor Type: Ceramic; Tolerance  (fill in as +-): 2%; Package Style: SMTMeter; Packaging: Tape and Reel; Tolerance (fill in as +-): 2%; Temperature Characteristics Code: C0G; Termination: Wraparound; Length: 1.6mm; Width: 0.8mm; Height: 0.8mm; Reach SVHC Compliant: Yes; RoHS Compliant: Yes; ComponentLink1URL: https://datasheet.ciiva.com:443/pdfs/VipMasterIC/IC/KEME/KEME-S-A0007622587/KEME-S-A0007625185-1.pdf?src-supplier=IHS+Markit; ComponentLink1Description: https://datasheet.ciiva.com:443/pdfs/VipMasterIC/IC/KEME/KEME-S-A0007622587/KEME-S-A0007625185-1.pdf?src-supplier=IHS+Markit; ComponentLink2URL: http://www.farnell.com/datasheets/2746295.pdf?src-supplier=Farnell; ComponentLink2Description: http://www.farnell.com/datasheets/2746295.pdf?src-supplier=Farnell; ComponentLink3URL: http://www.mouser.com/ds/2/212/KEM_C1003_C0G_SMD-1101588.pdf?src-supplier=Mouser; ComponentLink3Description: http://www.mouser.com/ds/2/212/KEM_C1003_C0G_SMD-1101588.pdf?src-supplier=Mouser; ComponentLink4URL: https://datasheet.octopart.com/C0603C560G5GACTU-KEMET-datasheet-86780216.pdf?src-supplier=Newark; ComponentLink4Description: https://datasheet.octopart.com/C0603C560G5GACTU-KEMET-datasheet-86780216.pdf?src-supplier=Newark; ComponentLink5URL: https://datasheet.octopart.com/C0603C560G5GACTU-Kemet-datasheet-62307647.pdf?src-supplier=Element14; ComponentLink5Description: https://datasheet.octopart.com/C0603C560G5GACTU-Kemet-datasheet-62307647.pdf?src-supplier=Element14; ComponentLink6URL: http://www.farnell.com/datasheets/2746295.pdf?src-supplier=Newark; ComponentLink6Description: http://www.farnell.com/datasheets/2746295.pdf?src-supplier=Newark; ComponentLink7URL: https://api.kemet.com/component-edge/download/datasheet/C0603C560G5GACTU.pdf?src-supplier=Digikey; ComponentLink7Description: https://api.kemet.com/component-edge/download/datasheet/C0603C560G5GACTU.pdf?src-supplier=Digikey; ComponentLink8URL: https://search.kemet.com/component-edge/download/datasheet/C0603C560G5GACTU.pdf?src-supplier=Digikey; ComponentLink8Description: https://search.kemet.com/component-edge/download/datasheet/C0603C560G5GACTU.pdf?src-supplier=Digikey; ComponentLink9URL: http://capacitoredge.kemet.com/capedge2/DataSheet?pn=C0603C560G5GACTU&src-supplier=Avnet; ComponentLink9Description: http://capacitoredge.kemet.com/capedge2/DataSheet?pn=C0603C560G5GACTU&src-supplier=Avnet; ComponentLink10URL: https://datasheet.octopart.com/C0603C560G5GACTU-KEMET-datasheet-157246123.pdf?src-supplier=Electro+Sonic; ComponentLink10Description: https://datasheet.octopart.com/C0603C560G5GACTU-KEMET-datasheet-157246123.pdf?src-supplier=Electro+Sonic; Supplier Part Number 1: 399-C0603C560G5GAC7867CT-ND
footprint CAPC1608X94N
pins: 1, 2 12

## C0603C681J5GACTU
designator C?  value 680pF  Voltage Rating: 50V  (hidden comment: C0603C681J5GACTU)
Multilayer Ceramic Capacitor, 680 pF, 50 V, ± 5%, C0G (NP0), 0603 [1608 Metric]; Manufacturer: KEMET; Material: 4241ConductorMaterial; Temperature Coefficient: 30ppm/°C; Dissipation Factor: 0.1%; Supplier: Digikey; Supplier Part Number: 399-C0603C681J5GAC7867CT-ND; Manufacturer Part Number: C0603C681J5GACTU; RoHS: Yes; Category: Ceramic Capacitors; Stock: 87938; Pricing: 1=0,1, 10=0,073, 50=0,0418, 100=0,0324, 500=0,0244, 1000=0,01916 (USD); Mounting Technology: Surface Mount,PCB; Case/Package: 0603; Pins: 2; Case Code (Imperial): 0603; Case Code (Metric): 1608; Dielectric Material: Ceramic; Min Operating Temperature: -55°C; Max Operating Temperature: 125°C; Tolerance: 5%; Dielectric: C0G; Package Quantity: 4000; Packaging: Tape and Reel; Voltage Rating (DC): 50V; Termination: SMD/SMT; Voltage: 50V; Series: C; Construction: Flat; Voltage Rating (AC): 50V; Length: 1.6mm; Width: 0.8mm; Height: 0.8mm; Lead Pitch: 0.7mm; Thickness: 0.034inch; Depth: 0.8mm; Radiation Hardening: No; Reach SVHC Compliant: No; RoHS Compliant: Yes; Lead Free: 5697LeadFree; ComponentLink1URL: https://datasheet.ciiva.com/144/docfinderpartnumber-c0603c681j5gactu-144808.pdf?src-supplier=Digikey; ComponentLink1Description: https://datasheet.ciiva.com/144/docfinderpartnumber-c0603c681j5gactu-144808.pdf?src-supplier=Digikey; ComponentLink2URL: https://datasheet.ciiva.com/7823/40889-7823834.pdf?src-supplier=Element14; ComponentLink2Description: https://datasheet.ciiva.com/7823/40889-7823834.pdf?src-supplier=Element14; ComponentLink3URL: https://datasheet.ciiva.com/7823/40889-7823833.pdf?src-supplier=Element14; ComponentLink3Description: https://datasheet.ciiva.com/7823/40889-7823833.pdf?src-supplier=Element14; ComponentLink4URL: https://datasheet.ciiva.com/28535/1372242-28535863.pdf?src-supplier=Element14; ComponentLink4Description: https://datasheet.ciiva.com/28535/1372242-28535863.pdf?src-supplier=Element14; ComponentLink5URL: https://datasheet.ciiva.com/14600/70095383-14600026.pdf?src-supplier=Allied+Electronics; ComponentLink5Description: https://datasheet.ciiva.com/14600/70095383-14600026.pdf?src-supplier=Allied+Electronics; ComponentLink6URL: https://datasheet.ciiva.com/11634/kem-c1003-c0g-smd-11634445.pdf?src-supplier=Avnet; ComponentLink6Description: https://datasheet.ciiva.com/11634/kem-c1003-c0g-smd-11634445.pdf?src-supplier=Avnet
footprint CAPC1608X94N
pins: 1, 2 12

## C0603X103K1RAC3316
designator C?  value 10nF  Voltage Rating: 100V  (hidden comment: C0603X103K1RAC3316)
Ceramic Capacitor, Multilayer, Ceramic, 100V, 10% +Tol, 10% -Tol, X7R, 15% TC, 0.01uF, Surface Mount, 0603; Manufacturer: KEMET; Supplier 1: Digikey; Manufacturer Part Number: C0603X103K1RAC3316; RoHS: Yes; Category: Ceramic Capacitors; Stock 1: 16514; Pricing 1: 1=0.4, 10=0.266, 50=0.1962, 100=0.1598, 500=0.12612, 1000=0.1065 (USD); RoHS Compliant: Yes; ComponentLink1URL: https://datasheet.ciiva.com:443/pdfs/VipMasterIC/IC/KEME/KEME-S-A0009553685/KEME-S-A0009553685-1.pdf?src-supplier=IHS+Markit; ComponentLink1Description: https://datasheet.ciiva.com:443/pdfs/VipMasterIC/IC/KEME/KEME-S-A0009553685/KEME-S-A0009553685-1.pdf?src-supplier=IHS+Markit; ComponentLink2URL: https://datasheet.octopart.com/C0603X103K1RAC3316-Kemet-datasheet-67621546.pdf?src-supplier=Newark; ComponentLink2Description: https://datasheet.octopart.com/C0603X103K1RAC3316-Kemet-datasheet-67621546.pdf?src-supplier=Newark; ComponentLink3URL: http://www.farnell.com/datasheets/2163236.pdf?src-supplier=Element14; ComponentLink3Description: http://www.farnell.com/datasheets/2163236.pdf?src-supplier=Element14; ComponentLink4URL: https://datasheet.octopart.com/C0603X103K1RAC3316-Kemet-datasheet-67291864.pdf?src-supplier=Farnell; ComponentLink4Description: https://datasheet.octopart.com/C0603X103K1RAC3316-Kemet-datasheet-67291864.pdf?src-supplier=Farnell; ComponentLink5URL: https://datasheet.octopart.com/C0603X103K1RAC3316-KEMET-datasheet-154582864.pdf?src-supplier=TME; ComponentLink5Description: https://datasheet.octopart.com/C0603X103K1RAC3316-KEMET-datasheet-154582864.pdf?src-supplier=TME; Supplier Part Number 1: 399-C0603X103K1RAC3316CT-ND
footprint CAPC1608X94N
pins: 1, 2 12

## C0805C104K1RACTU
designator C?  value 100nF  Rated DC Voltage (URdc): 100V  (hidden comment: C0805C104K1RACTU)
Ceramic Capacitor, Multilayer, Ceramic, 100V, 10% +Tol, 10% -Tol, X7R, 15% TC, 0.1uF, Surface Mount, 0805; Manufacturer: KEMET; Multilayer: Yes; Supplier 1: Digikey; Manufacturer Part Number: C0805C104K1RACTU; RoHS: Yes; Category: Ceramic Capacitors; Stock 1: 981301; Pricing 1: 1=0.23, 10=0.151, 50=0.1062, 100=0.0858, 500=0.06376, 1000=0.05578 (USD); Mounting Technology: Surface Mount; Pins: 2; Dielectric Material: Ceramic; Package Shape: Rectangular; Case/Package: 0805; Terminal Finish: Nickel; Min Operating Temperature: -55°C; Max Operating Temperature: 125°C; JESD-609 Code: e3; Capacitor Type: Ceramic; Tolerance  (fill in as +-): 10%; Package Style: SMTMeter; Packaging: Tape and Reel; Tolerance (fill in as +-): 10%; Temperature Characteristics Code: X7R; Termination: Wraparound; Length: 2mm; Width: 1.25mm; Height: 1mm; Reach SVHC Compliant: Yes; RoHS Compliant: Yes; ComponentLink1URL: https://datasheet.ciiva.com:443/pdfs/VipMasterIC/IC/KEME/KEME-S-A0008991654/KEME-S-A0008991654-1.pdf?src-supplier=IHS+Markit; ComponentLink1Description: https://datasheet.ciiva.com:443/pdfs/VipMasterIC/IC/KEME/KEME-S-A0008991654/KEME-S-A0008991654-1.pdf?src-supplier=IHS+Markit; ComponentLink2URL: https://datasheet.ciiva.com/7842/1776102-7842535.pdf?src-supplier=Element14; ComponentLink2Description: https://datasheet.ciiva.com/7842/1776102-7842535.pdf?src-supplier=Element14; ComponentLink3URL: https://datasheet.ciiva.com/18219/getdatasheetpartid-295573-18219253.pdf?src-supplier=Verical; ComponentLink3Description: https://datasheet.ciiva.com/18219/getdatasheetpartid-295573-18219253.pdf?src-supplier=Verical; ComponentLink4URL: https://datasheet.ciiva.com/14589/70095383-14589479.pdf?src-supplier=Allied+Electronics; ComponentLink4Description: https://datasheet.ciiva.com/14589/70095383-14589479.pdf?src-supplier=Allied+Electronics; ComponentLink5URL: https://datasheet.ciiva.com/5411/kem-c1002-x7r-smd-5411498.pdf?src-supplier=Mouser; ComponentLink5Description: https://datasheet.ciiva.com/5411/kem-c1002-x7r-smd-5411498.pdf?src-supplier=Mouser; ComponentLink6URL: https://datasheet.ciiva.com/18193/getdatasheetpartid-134794-18193404.pdf?src-supplier=Verical; ComponentLink6Description: https://datasheet.ciiva.com/18193/getdatasheetpartid-134794-18193404.pdf?src-supplier=Verical; Supplier Part Number 1: 399-C0805C104K1RAC7800CT-ND
footprint CAPC2012X145N
pins: 1, 2 12

## C1206C103K2REC7800
designator C?  value 10nF  Voltage: 200V  (hidden comment: C1206C103K2REC7800)
Cap Cer 1206 10NF 200V X7R 10%; Manufacturer: KEMET; Supplier: Digi-Key; Supplier Part Number: 399-C1206C103K2REC7800CT-ND; Manufacturer Part Number: C1206C103K2REC7800; RoHS: No; Category: Ceramic Capacitors; Stock: 7100; Pricing: 1=0,2, 10=0,127, 50=0,0804, 100=0,0643, 500=0,04642, 1000=0,04107 (USD)
footprint CAPC3216X160N
pins: 1, 2 12

## C1206C105K5RACTU
designator C?  value 1uF  Voltage: 50V  (hidden comment: C1206C105K5RACTU)
Multilayer Ceramic Capacitor, 1 uF, 50 V, ± 10%, X7R, 1206 [3216 Metric]; Manufacturer: KEMET; Material: 4241ConductorMaterial; Supplier: Digi-Key; Supplier Part Number: 399-C1206C105K5RAC7800CT-ND; Manufacturer Part Number: C1206C105K5RACTU; RoHS: Yes; Category: Ceramic Capacitors; Stock: 376783; Pricing: 1=0,28, 10=0,182, 50=0,128, 100=0,1034, 500=0,07684, 1000=0,06724 (USD); Mounting Technology: Surface Mount; Case/Package: 1206; Pins: 2; Dielectric Material: Ceramic; Case Code (Imperial): 1206; Case Code (Metric): 3216; Min Operating Temperature: -55°C; Max Operating Temperature: 125°C; Tolerance: 10%; Dielectric: X7R; Packaging: Tape and Reel; Termination: SMD/SMT; Package Quantity: 1; Voltage Rating: 50V; Voltage Rating (DC): 50V; Series: C; Construction: Flat; Voltage Rating (AC): 50V; Length: 3.2mm; Width: 0.063inch; Height: 1mm; Depth: 1.6mm; Thickness: 0.043inch; Radiation Hardening: No; Reach SVHC Compliant: No; RoHS Compliant: Yes; ComponentLink1URL: https://datasheet.ciiva.com/6074/kem-c1002-x7r-smd-6074697.pdf?src-supplier=Farnell; ComponentLink1Description: https://datasheet.ciiva.com/6074/kem-c1002-x7r-smd-6074697.pdf?src-supplier=Farnell; ComponentLink2URL: https://datasheet.ciiva.com/7730/kem-c1002-x7r-smd-7730086.pdf?src-supplier=Element14; ComponentLink2Description: https://datasheet.ciiva.com/7730/kem-c1002-x7r-smd-7730086.pdf?src-supplier=Element14; ComponentLink3URL: https://datasheet.ciiva.com/22749/1918693-22749725.pdf?src-supplier=Element14; ComponentLink3Description: https://datasheet.ciiva.com/22749/1918693-22749725.pdf?src-supplier=Element14
footprint CAPC1608X94N
pins: 1, 2 12

## C1206C472J2GECAUTO
designator C?  value 4.7nF  Voltage Rating: 200V  (hidden comment: C1206C472J2GECAUTO)
Cap Cer 1206 4.7NF 200V C0G 5%; Manufacturer: KEMET; Supplier: Digi-Key; Supplier Part Number: 399-C1206C472J2GECAUTOCT-ND; Manufacturer Part Number: C1206C472J2GECAUTO; RoHS: Yes; Category: Ceramic Capacitors; Stock: 3910; Pricing: 1=0,43, 10=0,285, 50=0,21, 100=0,171, 500=0,135, 1000=0,114 (USD); Mounting Technology: Surface Mount; Case/Package: 1206; Min Operating Temperature: -55°C; Max Operating Temperature: 125°C; Series: ESD SMD Auto C0G; Packaging: Tape and Reel; Tolerance: 5%; Ratings: AEC-Q200; RoHS Compliant: Yes; ComponentLink1URL: https://api.kemet.com/component-edge/download/datasheet/C1206C472J2GECAUTO.pdf?src-supplier=Digi-Key; ComponentLink1Description: https://api.kemet.com/component-edge/download/datasheet/C1206C472J2GECAUTO.pdf?src-supplier=Digi-Key
pins: 1, 2 12